# Altium integrated library Integrated_Library.IntLib: 216 symbols (part 1 of 3)
Pins are listed as number, name and electrical type; pins without a type are passive.

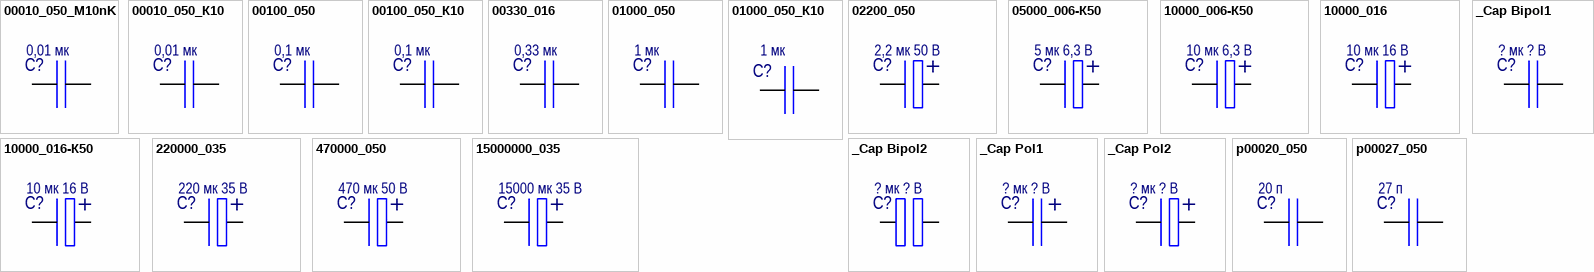
[diagram p0: symbols 00010_050_M10nK to p00027_050]

## 00010_050_M10nK
designator C?, comment value 0,01 мк  (hidden comment: CN8-M10nK)
0,01uF Bipolar cap pin-terminals; ManufacturerPartNumber: CN8-M10nK; Supplier: МЭК; Cost: 18; Package: not standard; ComponentLink1Description: Datasheet; ComponentLink2Description: Datasheet-local; ComponentLink2URL: *
footprint CN8-M10nK (CN8-M10nK Yellow Block Caps For Filter)
pins: 1, 2

## 00010_050_К10
designator C?, comment value 0,01 мк  (hidden comment: К10-17б-0,01 М47 5%)
0,01uF Bipolar cap chip; ManufacturerPartNumber: К10-17б-0,01 М47 5%; Supplier: МЭК; Cost: 18; Package: not standard; ComponentLink1Description: Datasheet; ComponentLink2Description: Datasheet-local; ComponentLink2URL: *
footprint CAPC3216X05M (Chip Capacitor, 2-Leads, Body 3,20x1,60mm, IPC Low Density)
pins: 1, 2

## 00100_050
designator C?, comment value 0,1 мк  (hidden comment: C2012X7R1H104K)
0,1uF Bipolar cap chip; Manufacturer: TDK; ManufacturerPartNumber: C2012X7R1H104K; Supplier: Промэлектроника; Cost: 0,65; Package: 0805; ComponentLink1Description: Datasheet; ComponentLink1URL: http://product.tdk.com/capacitor/mlcc/en/documents/mlcc_commercial_general_en.pdf; ComponentLink2Description: Dtasheet-local; ComponentLink2URL: *
footprint CAPC3216X05M (Chip Capacitor, 2-Leads, Body 3,20x1,60mm, IPC Low Density)
pins: 1, 2

## 00100_050_К10
designator C?, comment value 0,1 мк  (hidden comment: К10-17б-1.00 М47 5%)
0,1uF Bipolar through-hole capacitor; Manufacturer: СССР; ManufacturerPartNumber: К10-17б-1.00 М47 5%; Supplier: Промэлектроника; Cost: 0,65; Package: 0805; ComponentLink1Description: Datasheet; ComponentLink2Description: Dtasheet-local
footprint К-10
pins: 1, 2

## 00330_016
designator C?, comment value 0,33 мк  (hidden comment: CC0603KRX7R7BB334)
0,33uF Bipolar cap chip; Manufacturer: Yageo; ManufacturerPartNumber: CC0603KRX7R7BB334; Supplier: Промэлектроника; Cost: 0,62; Package: 0603; ComponentLink1Description: Datasheet; ComponentLink1URL: http://www.yageo.com/documents/recent/UPY-GPHC_X5R_4V-to-50V_v16.pdf; ComponentLink2Description: Datasheet-local; ComponentLink2URL: *
footprint CAPC3216X05M (Chip Capacitor, 2-Leads, Body 3,20x1,60mm, IPC Low Density)
pins: 1, 2

## 01000_050
designator C?, comment value 1 мк  (hidden comment: GRM31MR71H105K)
1uF Bipolar cap chip; Manufacturer: MURATA; ManufacturerPartNumber: GRM31MR71H105K; Supplier: Промэлектроника; Cost: 1,84; Package: 1206; ComponentLink1Description: Datasheet; ComponentLink1URL: http://product.tdk.com/capacitor/mlcc/en/documents/mlcc_commercial_general_en.pdf; ComponentLink2Description: Dtasheet-local; ComponentLink2URL: *
footprint CAPC3216X05M (Chip Capacitor, 2-Leads, Body 3,20x1,60mm, IPC Low Density)
pins: 1, 2

## 01000_050_К10
designator C?, comment value 1 мк  (hidden comment: К10-17б-1.00 М47 5%)
1uF Bipolar non-standard capacitor; ManufacturerPartNumber: К10-17б-1.00 М47 5%; Supplier: МЭК; Cost: 18; Package: not standard; ComponentLink1Description: Datasheet; ComponentLink2Description: Dtasheet-local; ComponentLink2URL: *
footprint 10000_050_K10
pins: 1, 2

## 02200_050
designator C?, comment value 2,2 мк 50 В  (hidden comment: CA050M2R20REB-0405)
2,2uF 50V Polar capacitor; Manufacturer: Yageo; ManufacturerPartNumber: CA050M2R20REB-0405; Supplier: Промэлектроника; Cost: 4,11; Package: not standard; ComponentLink1Description: Datasheet; ComponentLink1URL: http://www.yageo.com/documents/recent/E-Cap_SurfaceMount_CA_2011.pdf; ComponentLink2Description: Datasheet-local; ComponentLink2URL: *
footprint CAP_POLAR_ELLYTE_B (Surface Mount Aluminum Electrolytic (size code B))
pins: 1 -, 2 +

## 05000_006-К50
designator C?, comment value 5 мк 6,3 В  (hidden comment: К-50-6)
5uF 6,3V Polar through-hole cap; ManufacturerPartNumber: К-50-6; Supplier: -; Cost: -; Package: штырьевой; ComponentLink1Description: Datasheet; ComponentLink2Description: Datasheet-local
footprint К50-6
pins: 1 -, 2 +

## 10000_006-К50
designator C?, comment value 10 мк 6,3 В  (hidden comment: К-50-6)
10uF 6,3V Polar through-hole cap; ManufacturerPartNumber: К-50-6; Supplier: -; Cost: -; Package: штырьевой; ComponentLink1Description: Datasheet; ComponentLink2Description: Datasheet-local
footprint К50-6
pins: 1 -, 2 +

## 10000_016
designator C?, comment value 10 мк 16 В  (hidden comment: CA016M0010REB-0405)
10uF 16V Polar SMD cap; Manufacturer: YAGEO; ManufacturerPartNumber: CA016M0010REB-0405; Supplier: -; Cost: 3,03; Package: штырьевой; ComponentLink1Description: Datasheet; ComponentLink2Description: Datasheet-local
footprint CAP_POLAR_ELLYTE_B (Surface Mount Aluminum Electrolytic (size code B))
pins: 1 -, 2 +

## 10000_016-К50
designator C?, comment value 10 мк 16 В  (hidden comment: К-50-6)
10uF 16V Polar through-hole cap; ManufacturerPartNumber: К-50-6; Supplier: -; Cost: -; Package: штырьевой; ComponentLink1Description: Datasheet; ComponentLink2Description: Datasheet-local
footprint К50-6
pins: 1 -, 2 +

## 220000_035
designator C?, comment value 220 мк 35 В  (hidden comment: CA035M0220REG)
220uF 35V Polar capacitor; Manufacturer: Yageo; ManufacturerPartNumber: CA035M0220REG; Supplier: Промэлектроника; Cost: 20,14; Package: not standard; ComponentLink1Description: Datasheet; ComponentLink1URL: http://www.promelec.ru/pdf/CA_2011.pdf; ComponentLink2Description: Datasheet-local; ComponentLink2URL: *
footprint CAP_POLAR_ELLYTE_G (Surface Mount Aluminum Electrolytic (size code G))
pins: 1 -, 2 +

## 470000_050
designator C?, comment value 470 мк 50 В  (hidden comment: CA035M0220REG)
470uF 50V Polar capacitor; Manufacturer: Yageo; ManufacturerPartNumber: CA035M0220REG; Supplier: Промэлектроника; Cost: 20,14; Package: not standard; ComponentLink1Description: Datasheet; ComponentLink1URL: http://www.promelec.ru/pdf/CA_2011.pdf; ComponentLink2Description: Datasheet-local; ComponentLink2URL: *
footprint CAP_POLAR_10mm (Polar through-hole capactitor 10mm diamiter)
pins: 1 -, 2 +

## 15000000_035
designator C?, comment value 15000 мк 35 В  (hidden comment: LG035M15K0BPF-3045)
15000uF 6,3V Polar through-hole cap; ManufacturerPartNumber: LG035M15K0BPF-3045; Supplier: Промэлектроника; Cost: -; Package: штырьевой; ComponentLink1Description: Datasheet-general; ComponentLink1URL: http://www.yageo.com/documents/recent/E-Cap_LargeCan_LG_2011_v2.pdf; ComponentLink2Description: Datasheet-2
footprint CAP_POLAR_3045 (Корпус электролитического конденсатора Yageo серии LG типа 30х45)
pins: 1 -, 2 +

## _Cap Bipol1
designator C?, comment value ? мк ? В  (hidden comment: ?)
Bipolar capacitor; ManufacturerPartNumber: ?; ComponentLink1Description: Datasheet; ComponentLink2Description: Datasheet-local; ComponentLink2URL: *
pins: 0, 1

## _Cap Bipol2
designator C?, comment value ? мк ? В  (hidden comment: ?)
Bipolar capacitor (electrolytic); ManufacturerPartNumber: ?; ComponentLink1Description: Datasheet; ComponentLink2Description: Datasheet-local; ComponentLink2URL: *
pins: 0, 1

## _Cap Pol1
designator C?, comment value ? мк ? В  (hidden comment: ?)
Polar capacitor; ManufacturerPartNumber: ?; ComponentLink1Description: Datasheet; ComponentLink2Description: Datasheet-local; ComponentLink2URL: *
pins: 0, 1

## _Cap Pol2
designator C?, comment value ? мк ? В  (hidden comment: ?)
Polar capacitor; ManufacturerPartNumber: ?; ComponentLink1Description: Datasheet; ComponentLink2Description: Datasheet-local; ComponentLink2URL: *
pins: 0, 1

## p00020_050
designator C?, comment value 20 п  (hidden comment: CC0603JRNP09BN200)
20pF Bipolar cap; Manufacturer: Yageo; ManufacturerPartNumber: CC0603JRNP09BN200; Supplier: Промэлектроника; Cost: 0,34; Package: 0603; ComponentLink1Description: Datasheet; ComponentLink1URL: http://www.yageo.com/documents/recent/UPY-GPHC_X5R_4V-to-50V_v16.pdf; ComponentLink2Description: Datasheet-local; ComponentLink2URL: *
footprint CAPC3216X05M (Chip Capacitor, 2-Leads, Body 3,20x1,60mm, IPC Low Density)
pins: 1, 2

## p00027_050
designator C?, comment value 27 п  (hidden comment: CC1206JRNP09BN270)
27pF Bipolar cap; Manufacturer: Yageo; ManufacturerPartNumber: CC1206JRNP09BN270; Supplier: Промэлектроника; Cost: 1,40; Package: 1206; ComponentLink1Description: Datasheet; ComponentLink1URL: http://www.yageo.com/documents/recent/UPY-GPHC_X5R_4V-to-50V_v16.pdf; ComponentLink2Description: Datasheet-local; ComponentLink2URL: *
footprint CAPC3216X05M (Chip Capacitor, 2-Leads, Body 3,20x1,60mm, IPC Low Density)
pins: 1, 2


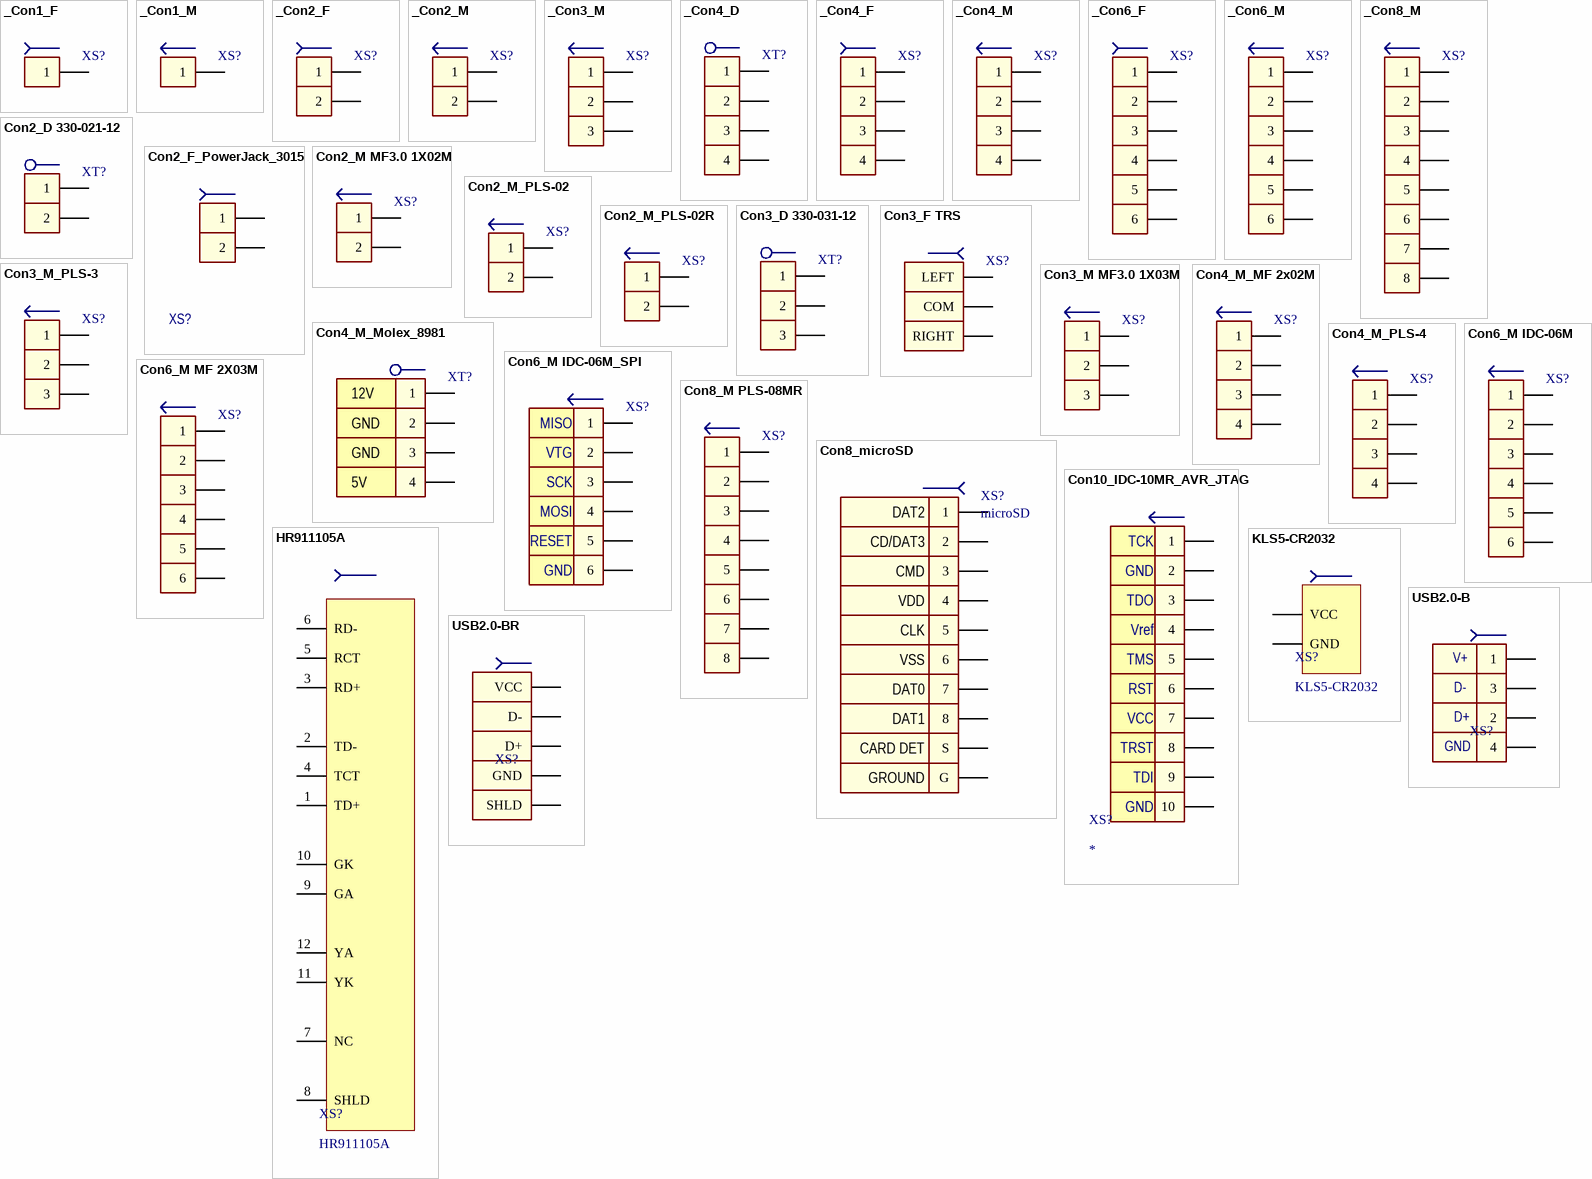
[diagram p1: symbols _Con1_F to USB2.0-BR]

## _Con1_F
designator XS?, comment ?  (value not drawn)
Female 1-pin connection; ManufacturerPartNumber: ?; ComponentLink1Description: Datasheet); ComponentLink2Description: Datasheet-local; ComponentLink2URL: *
pins: 1

## _Con1_M
designator XS?, comment ?  (value not drawn)
Male 1-pin connection; ManufacturerPartNumber: ?; ComponentLink1Description: Datasheet; ComponentLink2Description: Datasheet-local; ComponentLink2URL: *
pins: 1

## _Con2_F
designator XS?, comment ?  (value not drawn)
Female 2-pin connection; ManufacturerPartNumber: ?; ComponentLink1Description: Datasheet; ComponentLink2Description: Datasheet-local; ComponentLink2URL: *
pins: 1, 2

## _Con2_M
designator XS?, comment ?  (value not drawn)
Male 2-pin connection; ManufacturerPartNumber: ?; ComponentLink1Description: Datasheet; ComponentLink2Description: Datasheet-local; ComponentLink2URL: *
pins: 1, 2

## _Con3_M
designator XS?, comment ?  (value not drawn)
Male 3-pin connection; ManufacturerPartNumber: ?; ComponentLink1Description: Datasheet; ComponentLink2Description: Datasheet-local; ComponentLink2URL: *
pins: 1, 2, 3

## _Con4_D
designator XT?, comment ?  (value not drawn)
Demountable connection  4-pin; ManufacturerPartNumber: ?; ComponentLink1Description: Datasheet; ComponentLink2Description: Datasheet-local; ComponentLink2URL: *
pins: 1, 2, 3, 4

## _Con4_F
designator XS?, comment ?  (value not drawn)
Female 4-pin connection; ManufacturerPartNumber: ?; ComponentLink1Description: Datasheet; ComponentLink2Description: Datasheet-local; ComponentLink2URL: *
pins: 1, 2, 3, 4

## _Con4_M
designator XS?, comment ?  (value not drawn)
Male 4-pin connection; ManufacturerPartNumber: ?; ComponentLink1Description: Datasheet; ComponentLink2Description: Datasheet-local; ComponentLink2URL: *
pins: 1, 2, 3, 4

## _Con6_F
designator XS?, comment ?  (value not drawn)
Female 6-pin connection; ManufacturerPartNumber: ?; ComponentLink1Description: Datasheet; ComponentLink2Description: Datasheet-local; ComponentLink2URL: *
pins: 1, 2, 3, 4, 5, 6

## _Con6_M
designator XS?, comment ?  (value not drawn)
Male 6-pin connection; ManufacturerPartNumber: ?; ComponentLink1Description: Datasheet; ComponentLink2Description: Datasheet-local; ComponentLink2URL: *
pins: 1, 2, 3, 4, 5, 6

## _Con8_M
designator XS?, comment ?  (value not drawn)
Male 8-pin connection; ManufacturerPartNumber: ?; ComponentLink1Description: Datasheet; ComponentLink2Description: Datasheet-local; ComponentLink2URL: *
pins: 1, 2, 3, 4, 5, 6, 7, 8

## Con2_D 330-021-12
designator XT?, comment 330-021-12  (value not drawn)
Demountable connection  2-pin; Manufacturer: Degson Electronics Co., Ltd; ManufacturerPartNumber: 330-021-12; ComponentLink1Description: Datasheet; ComponentLink1URL: http://www.promelec.ru/pdf/320,321,330,335.pdf; Cost: 7,45; Supplier: Промэлектроника; ComponentLink2Description: Datasheet-local
footprint 330-021-12
pins: 1, 2

## Con2_F_PowerJack_3015
designator XS?, comment гнездо 5.5*2.1 (3015) 2826  (value not drawn)
гнездо 5.5*2.1; ManufacturerPartNumber: гнездо 5.5*2.1 (3015) 2826; Cost: 16.77; Supplier: Промэлектроника
footprint CON2_3015_PowerJack_5.5x2.1 (Power_Con)
pins: 1, 2

## Con2_M MF3.0 1X02M
designator XS?, comment MF3.0 1X02M  (value not drawn)
Male 2-pin connection; Manufacturer: AUK; ManufacturerPartNumber: MF3.0 1X02M; ComponentLink1Description: Datasheet; ComponentLink1URL: http://www.promelec.ru/catalog/406/1218/1228/0/99573/; ComponentLink2Description: Datasheet-local; ComponentLink2URL: *
footprint MF3.0 1x02M
pins: 1, 2

## Con2_M_PLS-02
designator XS?, comment PLS-02  (value not drawn)
Male 2-pin connection; ManufacturerPartNumber: PLS-02; ComponentLink1Description: Datasheet; ComponentLink1URL: http://www.promelec.ru/catalog/406/1218/1224/1/24233/; ComponentLink2Description: Datasheet-local; ComponentLink2URL: *
footprint PLS-02 (вилка на плату)
pins: 1, 2

## Con2_M_PLS-02R
designator XS?, comment PLS-02R  (value not drawn)
Male 2-pin connection; ManufacturerPartNumber: PLS-02R; ComponentLink1Description: Datasheet; ComponentLink1URL: http://www.promelec.ru/catalog/406/1218/1224/1/24233/; ComponentLink2Description: Datasheet-local; ComponentLink2URL: *
footprint PLS-02R1 (вилка на плату)
footprint PLS-02R2 (вилка на плату)
pins: 1, 2

## Con3_D 330-031-12
designator XT?, comment 330-031-12  (value not drawn)
Demountable connection 3-pin; Manufacturer: Degson Electronics Co., Ltd; ManufacturerPartNumber: 330-031-12; ComponentLink1Description: Datasheet; Cost: 13; Supplier: Промэлектроника; ComponentLink2Description: Datasheet-local
footprint 330-031-12
pins: 1, 2, 3

## Con3_F TRS
designator XS?, comment СТЕР гн.d=3.5 приб PJ317 зеленый  (value not drawn)
Female 3-pin stereo TRS; Manufacturer: SHE; ManufacturerPartNumber: СТЕР гн.d=3.5 приб PJ317 зеленый; ComponentLink1Description: Datasheet; ComponentLink1URL: http://www.promelec.ru/catalog/406/1218/1228/0/99573/; ComponentLink2Description: Datasheet-local; ComponentLink2URL: *
footprint 3.5mm Jack board
pins: 1 LEFT, 2 COM, 3 RIGHT

## Con3_M MF3.0 1X03M
designator XS?, comment MF3.0 1X03M  (value not drawn)
Male 3-pin connection; ManufacturerPartNumber: MF3.0 1X03M; ComponentLink1Description: Datasheet; ComponentLink1URL: http://www.promelec.ru/catalog/406/1218/1228/0/99573/; ComponentLink2Description: Datasheet-local; ComponentLink2URL: *
footprint MF3.0 1x03M
pins: 1, 2, 3

## Con3_M_PLS-3
designator XS?, comment PLS-3  (value not drawn)
Male 3-pin connection; ManufacturerPartNumber: PLS-3; ComponentLink1Description: Datasheet; ComponentLink1URL: http://www.promelec.ru/catalog/406/1218/1224/1/24233/; ComponentLink2Description: Datasheet-local; ComponentLink2URL: *
footprint PLS-03
pins: 1, 2, 3

## Con4_M_MF 2x02M
designator XS?, comment MF 2x02M  (value not drawn)
Male 4-pin connection; Manufacturer: AUK Connector; ManufacturerPartNumber: MF 2x02M; ComponentLink1Description: Datasheet; ComponentLink1URL: http://www.promelec.ru/catalog/406/1218/1228/0/63868/; Cost: 13,94; Supplier: Промэлектроника; ComponentLink2Description: Datasheet-local; ComponentLink2URL: *
footprint MF 2x02M
pins: 1, 2, 3, 4

## Con4_M_Molex_8981
designator XT?, comment molex 8981  (value not drawn)
Demountable connection  4-pin; Manufacturer: Molex Inc.; ManufacturerPartNumber: molex 8981; ComponentLink1Description: Datasheet; ComponentLink1URL: http://www.molex.com/pdm_docs/sd/015244048_sd.pdf; Cost: 16,90; Supplier: Промэлектроника; ComponentLink2Description: Datasheet-local
footprint con4_molex_8981 (4-pin molex connection)
pins: 1, 2, 3, 4
text: 12V; GND; 5V

## Con4_M_PLS-4
designator XS?, comment PLS-4  (value not drawn)
Male 4-pin connection; ManufacturerPartNumber: PLS-4; ComponentLink1Description: Datasheet; ComponentLink1URL: http://www.promelec.ru/catalog/406/1218/1224/1/24233/; ComponentLink2Description: Datasheet-local; ComponentLink2URL: *
footprint PLS-04 (вилка на плату)
pins: 1, 2, 3, 4

## Con6_M IDC-06M
designator XS?, comment IDC-06M  (value not drawn)
Male 6-pin connection; ManufacturerPartNumber: IDC-06M; ComponentLink1Description: Datasheet; ComponentLink1URL: http://www.promelec.ru/catalog/406/1218/1223/1/156430/; ComponentLink2Description: Datasheet-local; ComponentLink2URL: *
footprint IDC-06M
pins: 1, 2, 3, 4, 5, 6

## Con6_M IDC-06M_SPI
designator XS?, comment IDC-06M  (value not drawn)
SPI connector; ManufacturerPartNumber: IDC-06M; ComponentLink1Description: Datasheet; ComponentLink1URL: http://www.promelec.ru/catalog/406/1218/1223/1/156430/; ComponentLink2Description: Datasheet-local; ComponentLink2URL: *
footprint IDC-06M
pins: 1, 2, 3, 4, 5, 6
text: MISO; VTG; SCK; MOSI; RESET; GND

## Con6_M MF 2X03M
designator XS?, comment MF 2X03M  (value not drawn)
Male 6-pin connection; ManufacturerPartNumber: MF 2X03M; ComponentLink1Description: Datasheet; ComponentLink1URL: http://www.promelec.ru/catalog/406/1218/1228/0/63867/; ComponentLink2Description: Datasheet-local; ComponentLink2URL: *
footprint MF 2x03M
pins: 1, 2, 3, 4, 5, 6

## Con8_M PLS-08MR
designator XS?, comment PLS-08R  (value not drawn)
Male 8-pin connection; ManufacturerPartNumber: PLS-08R; ComponentLink1Description: Datasheet; ComponentLink1URL: http://www.promelec.ru/catalog/406/1218/1223/1/99528/; ComponentLink2Description: Datasheet-local; ComponentLink2URL: *
footprint PLS-08R1 (угловая вилка на плату)
footprint PLS-08R2 (угловая вилка на плату)
pins: 1, 2, 3, 4, 5, 6, 7, 8

## Con8_microSD
designator XS?, comment microSD
MicroSD surface mount socket (push-push type); ManufacturerPartNumber: TFC-WPCER-08; Manufacturer: AUK; ComponentURL1Description: Datasheet; Cost: 64; ComponentURL1Link: http://www.promelec.ru/pdf/TFC-WPCE08.pdf; Supplier: Промэлектроника
footprint TFC-WPCER-08 (MicroSD Socket Top Mount Push-push Type)
pins: 1, 2, 3, 4, 5, 6, 7, 8, G, S
text: DAT2; CD/DAT3; CMD; VDD; CLK; VSS; DAT0; DAT1; CARD DET; GROUND

## Con10_IDC-10MR_AVR_JTAG
designator XS?
AVR JTAG connector
footprint IDC-10MR (IDC 10 pin right connector)
pins: 1, 2, 3, 4, 5, 6, 7, 8, 9, 10
text: TCK; GND; TDO; Vref; TMS; RST; VCC; TRST; TDI

## HR911105A
designator XS?
Ethernet Magjack; ManufacturerPartNumber: HR911105A
footprint HR911105A (Magjack)
pins: 1 TD+, 2 TD-, 3 RD+, 4 TCT, 5 RCT, 6 RD-, 7 NC, 8 SHLD, 9 GA, 10 GK, 11 YK, 12 YA

## KLS5-CR2032
designator XS?
CR2032 battery holder
footprint KLS5-CR2032 (CR2032 battery holder)
pins: + VCC, - GND

## USB2.0-B
designator XS?, comment USB B A-09 РОЗЕТКА НА ПЛАТУ  (value not drawn)
USB-B; ManufacturerPartNumber: USB B A-09 РОЗЕТКА НА ПЛАТУ; ComponentLink1Description: Datasheet; ComponentLink1URL: http://www.promelec.ru/catalog/406/1229/1281/1/124861/; ComponentLink2Description: Datasheet-local; ComponentLink2URL: *
footprint USB2.0B_Horizontal (Connector; USB1.1, Type B, Thru-Hole; 4 Position; Right Angle)
pins: 1, 2, 3, 4
text: V+; D-; D+; GND

## USB2.0-BR
designator XS?, comment USB B A-09 РОЗЕТКА НА ПЛАТУ  (value not drawn)
USB-B Vertical; ManufacturerPartNumber: USB B A-09 РОЗЕТКА НА ПЛАТУ; ComponentLink1Description: Datasheet; ComponentLink1URL: http://www.promelec.ru/catalog/406/1229/1281/1/124861/; ComponentLink2Description: Datasheet-local; ComponentLink2URL: *
footprint USB2.0B_Vertical (Connector; USB1.1, Type B, Thru-Hole; 4 Position; Right Angle)
pins: D+, D-, GND, SHLD, VCC


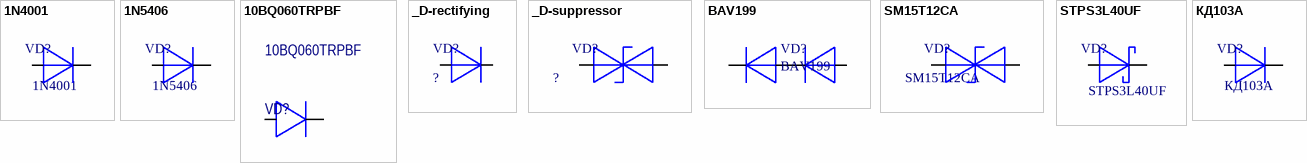
[diagram p2: symbols 1N4001 to КД103А]

## 1N4001
designator VD?
Rectifying diode; ComponentLink1Description: Datasheet; ComponentLink1URL: http://www.promelec.ru/pdf/1N400x.pdf; Cost: 5; Package: штырьевой; ComponentLink2Description: Datasheet-local; ComponentLink2URL: *; ManufacturerPartNumber: 1N4001
footprint PinDiode (Simple pin diode with A and K designators)
pins: A, K

## 1N5406
designator VD?
Выпрямительный диод 600В 3А; ComponentLink1Description: Datasheet; ComponentLink1URL: http://www.vishay.com/docs/88516/1n5400.pdf; Cost: 5; Package: DO-201AD; Supplier: Промэлектроника; ComponentLink2Description: Datasheet-local; ManufacturerPartNumber: 1N5406
footprint DO-201AD
pins: A, K

## 10BQ060TRPBF
designator VD?
DIODE SCHOTTKY 60V 1A DO214AA; Manufacturer: Vishay Semiconductor Diodes Division; Voltage - Forward (Vf) (Max) @ If: 600mV @ 1A; Current - Reverse Leakage @ Vr: 100µA @ 60V; Category: Discrete Semiconductor Products; Diode Type: Schottky; Voltage - DC Reverse (Vr) (Max): 60V; Current - Average Rectified (Io): 1A; Reverse Recovery Time (trr): -; Mounting Type: Surface Mount; Package / Case: DO-214AA, SMB; Operating Temperature - Junction: -55°C ~ 150°C; ComponentLink1URL: http://www.vishay.com/docs/94113/vs-10bq060pbf.pdf; ComponentLink1Description: http://www.vishay.com/docs/94113/vs-10bq060pbf.pdf; ManufacturerPartNumber: 10BQ060TRPBF
footprint SHOTKY 4.1x3.3
pins: A, K

## _D-rectifying
designator VD?, comment ?
Dectifying diode; ComponentLink1Description: Datasheet; ComponentLink2Description: Datasheet-local; ComponentLink2URL: *; ManufacturerPartNumber: ?
pins: 1, 2

## _D-suppressor
designator VD?, comment ?
Diod suppressor; ComponentLink1Description: Datasheet; ComponentLink2Description: Datasheet-local; ComponentLink2URL: *; ManufacturerPartNumber: ?
pins: 1, 2

## BAV199
designator VD?
Epitaxial, medium-speed switching,  double diode in a small SOT23 plastic  SMD package. The diodes are  connected in series.; Manufacturer: NXP; ManufacturerPartNumber: BAV199; Cost: 0.73; ComponentLink1Description: Datasheet; Package: SOT23; Supplier: Промэлектроника; ComponentLink1URL: http://www.nxp.com/documents/data_sheet/BAV199.pdf
footprint SOT23 (TO-236AB) (SOT23, 3-Leads, Body 2,90x2,45mm, Pitch 0,95mm, IPC Low Density)
pins: 1, 2, 3

## SM15T12CA
designator VD?
Diod suppressor; Manufacturer: ST Microelectronics; Notes: 12 В; ComponentLink1Description: Datasheet; ComponentLink1URL: http://www.st.com/st-web-ui/static/active/en/resource/technical/document/datasheet/CD00000724.pdf; Cost: 16,73; Package: SMC/DO-214AB; Supplier: Промэлектроника; ComponentLink2Description: Datasheet-local; ComponentLink2URL: *; ManufacturerPartNumber: SM15T12CA
footprint SUPRES3216X18N
pins: 1, 2

## STPS3L40UF
designator VD?
Диод Шоттки 40В 3А; ComponentLink1Description: Datasheet; ComponentLink1URL: http://www.st.com/web/en/resource/technical/document/datasheet/CD00002082.pdf; Cost: 5; Package: SMC; ComponentLink2Description: Datasheet-local; ComponentLink2URL: *; ManufacturerPartNumber: STPS3L40UF
footprint SMC (Molded Diode, 2-Leads, Body 6,88x5,90mm, IPC Low Density)
pins: A, K

## КД103А
designator VD?
Rectifying diode; ComponentLink1Description: Datasheet; Package: штырьевой; ComponentLink2Description: Datasheet-local; ComponentLink2URL: *; ManufacturerPartNumber: КД103А
footprint КД103
pins: A, K


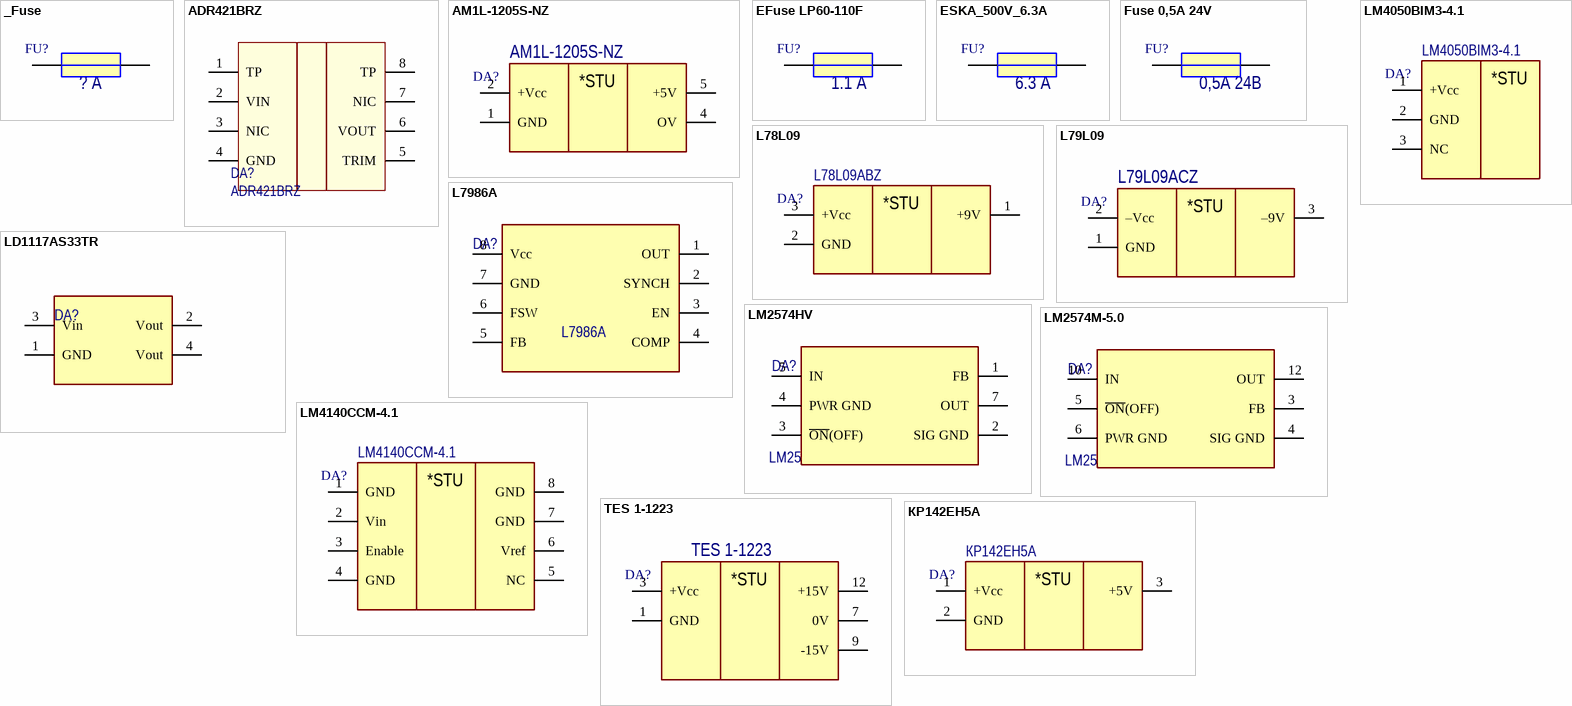
[diagram p3: symbols _Fuse to КР142ЕН5А]

## _Fuse
designator FU?, comment value ? А  (hidden comment: ?)
Fuse; ManufacturerPartNumber: ?; ComponentLink1Description: Datasheet; ComponentLink2Description: Datasheet-local; ComponentLink2URL: *
pins: 1, 2

## ADR421BRZ
designator DA?
IC VREF SERIES 2.5V 8SOIC; Manufacturer: Analog Devices Inc.; Manufacturer Part Number: ADR421ARZ; Output Type: Fixed; Current - Output: 10mA; Tolerance: ±0.12%; Temperature Coefficient: 10ppm/°C; Noise - 0.1Hz to 10Hz: 1.75µVp-p; Voltage - Input: 4.5 V ~ 18 V; Current - Supply: 600µA; RoHS: RoHS Compliant; Category: Integrated Circuits (ICs); Packaging: Tube; Reference Type: Series; Voltage - Output (Min/Fixed): 2.5V; Voltage - Output (Max): -; Noise - 10Hz to 10kHz: -; Current - Cathode: -; Operating Temperature: -40°C ~ 125°C (TA); Mounting Type: Surface Mount; Package / Case: 8-SOIC (0.154", 3.90mm Width); Supplier Device Package: 8-SOIC; ComponentLink1URL: http://www.analog.com/media/en/technical-documentation/data-sheets/ADR420_421_423_425.pdf; ComponentLink1Description: http://www.analog.com/media/en/technical-documentation/data-sheets/ADR420_421_423_425.pdf; Supplier 1: Digi-Key; Stock 1: 2020; Pricing 1: 1=10.36, 98=8.91959, 196=7.7448, 588=6.74405, 1078=5.87385, 2548=5.6563, 5000=5.496 (USD); ManufacturerPartNumber: ADR421BRZ; Supplier Part Number 1: ADR421BRZ-ND
footprint SO8 (SOIC, 8-Leads, Body 4,90x3,90mm, Pitch 1,27mm, IPC Low Density)
pins: 1 TP, 2 VIN, 3 NIC, 4 GND, 5 TRIM, 6 VOUT, 7 NIC, 8 TP

## AM1L-1205S-NZ
designator DA?
DC/DC Isolation; Manufacturer: AIMTEC; ComponentLink1URL: http://www.aimtec.com/site/Aimtec/files/Datasheet/HighResolution/AM1L-N-Z.pdf; ComponentLink2Description: Datasheet-local; Package: SMD-8; Cost: 166,68; Supplier: Диджитек; ComponentLink1Description: Datasheet; ComponentLink2URL: .\datasheet\AM1L-N-Z.pdf; ManufacturerPartNumber: AM1L-1205S-NZ
footprint SOP254P1120X625-8M (SOP, 8-Leads, Body 12,70x7,25mm, Pitch 2,54mm, IPC Low Density)
footprint SOP254P1120X625-8M (SOP, 8-Leads, Body 12,70x7,25mm, Pitch 2,54mm, IPC Low Density)
pins: 1 GND (power), 2 +Vcc (power), 4 OV (power), 5 +5V (power)
text: *STU

## EFuse LP60-110F
designator FU?  value 1.1 А  (hidden comment: EFuse LP60-110F)
Fuse; ManufacturerPartNumber: EFuse LP60-110F; ComponentLink1Description: Datasheet; ComponentLink2Description: Datasheet-local; ComponentLink2URL: *
footprint EFuse 1.1A
pins: 1, 2

## ESKA_500V_6.3A
designator FU?, comment value 6.3 А  (hidden comment: ESKA 120.700 (1207))
Fuse; ManufacturerPartNumber: ESKA 120.700 (1207); ComponentLink1Description: Datasheet; ComponentLink1URL: http://conrad.ru/doci/dergatel_predohranitelya_eska__533920_multi.pdf; ComponentLink2Description: Datasheet-local; ComponentLink2URL: *
footprint ESKA_1207 (Держатель для предохранителя 5mm x 20mm)
pins: 1, 2

## Fuse 0,5A 24V
designator FU?, comment value 0,5А 24В  (hidden comment: miniSMDC050F-2)
Fuse 0,5А 36В; Manufacturer: RAYCHEM; ManufacturerPartNumber: miniSMDC050F-2; ComponentLink1Description: Datasheet; Cost: 16,90; Supplier: Промэлектроника; ComponentLink2Description: Datasheet-local; ComponentLink2URL: *
footprint EFUSEC4632X06M (Chip eFuse, 2-Leads, Body 4,55x3,24mm, IPC Low Density)
pins: 1, 2

## L78L09
designator DA?, comment L78L09ABZ
DC/DC Positive; Manufacturer: ST Microelectronics; Package: TO-92; ComponentLink1URL: http://www.st.com/web/en/resource/technical/document/datasheet/CD00000446.pdf; ComponentLink1Description: Datasheet; Cost: 10,88; Supplier: Промэлектроника; ComponentLink2URL: .\datasheet\L78LxxAB.pdf; ComponentLink2Description: Datasheet-local; ManufacturerPartNumber: L78L09ABZ
footprint L78L09 (TO-92)
pins: 1 +9V (power), 2 GND (power), 3 +Vcc (power)
text: *STU

## L79L09
designator DA?, comment L79L09ACZ
DC/DC Negative; Manufacturer: ST Microelectronics; Package: TO-92; ComponentLink1Description: Datasheet; ComponentLink1URL: http://www.st.com/st-web-ui/static/active/en/resource/technical/document/datasheet/CD00000539.pdf; Supplier: Промэлектроника; Cost: 14,77; ComponentLink2Description: Datasheet-local; ComponentLink2URL: .\datasheet\L78LxxAB.pdf; ManufacturerPartNumber: L79L09ACZ
footprint L78L09 (TO-92)
pins: 1 GND (power), 2 –Vcc (power), 3 –9V (power)
text: *STU

## L7986A
designator DA?
3 A step-down switching regulator; Manufacturer: ST; Package: HSOP8; Supplier: Промэлектроника; ComponentLink1Description: Datasheet; ComponentLink1URL: http://www.st.com/web/en/resource/technical/document/datasheet/DM00041568.pdf; ManufacturerPartNumber: L7986A
footprint HSOP8 (SOIC, 8-Leads, Body 4,90x3,90mm, Pitch 1,27mm, IPC Low Density)
pins: 1 OUT "Regulator output", 2 SYNCH "Master/slave synchronization. When it is left floating, a signal with a phase shift of half a period, with respect to the power turn-on is present at the pin. When connected to an external signal at a frequency higher than the internal one, the device is synchronized by the external signal, with zero phase shift. Connecting together the SYNCH pin of two devices, the one with a higher frequency works as master and the other one as slave; so the two powers turn-ons have a phase shift of half a period.", 3 EN "A logical signal (active high) enables the device. With EN higher than 1.2 V the device is ON and with EN lower than 0.3 V the device is OFF", 4 COMP "Error amplifier output to be used for loop frequency compensation", 5 FB "Feedback input. By connecting the output voltage directly to this pin the output voltage is regulated at 0.6 V. To have higher regulated voltages an external resistor divider is required from Vout to the FB pin", 6 FSW "The switching frequency can be increased connecting an external resistor from the FSW pin and ground. If this pin is left floating, the device works at its free-running frequency of 250 KHz.", 7 GND "Ground", 8 Vcc "Unregulated DC input voltage"

## LD1117AS33TR
designator DA?, comment LD1117A
LDO регулятор напряжения 3.3V 1.0A Positive; Manufacturer: STMicroelectronics; ManufacturerPartNumber: LD1117AS33TR; Входной ток смещения - макс.: 5 mA; Входное напряжение (макс.): 10 V; Количество выходов: 1 Output; Выходной ток: 1 A; Тип выхода: Fixed; Упаковка / блок: SOT-223-3; Упаковка: Reel; Напряжение отпускания - макс.: 1.1 V at 100 mA; Вид монтажа: SMD/SMT; Точность регулирования напряжения: 2 %; Нестабильность выходного напряжения или тока: 6 mV / V; Нестабильность выходной нагрузки: 10 mV; Максимальная рабочая температура: + 125 C; Максимальное рассеяние мощности: 12 W; Минимальная рабочая температура: 0 C; Категория продукта: Low Drop Voltage Regulators/Drivers; Кол-во в стандартной упаковке: 2500; Supplier 1: Mouser; RoHS: RoHS Compliant; Category: LDO регуляторы напряжения; Stock 1: 3050; Pricing 1: 1=1.14, 10=0.890, 100=0.576, 1000=0.461, 2500=0.388, 10000=0.377 (USD); Выходное напряжение: 3.3 V; Серия: LD1117A; Торговая марка: STMicroelectronics; Производитель: STMicroelectronics; RoHS - Mouser: Y; Minimum Order Quantity: 1; Reeling: True; ComponentLink1URL: http://www.mouser.com/ds/2/389/CD00002116-250310.pdf; ComponentLink1Description: http://www.mouser.com/ds/2/389/CD00002116-250310.pdf; Cost: 45; Supplier Part Number 1: 511-LD1117AS33
footprint SOT230P700X180-4L (SOT223, 4-Leads, Body 6,50x7,00mm (avg), Pitch 2,30mm, IPC High Density)
pins: 1 GND, 2 Vout, 3 Vin, 4 Vout

## LM2574HV
designator DA?
Package: DIP-8; ManufacturerPartNumber: LM2574HV
footprint DIP8
pins: 1 FB, 2 SIG GND, 3 ~{ON}(OFF), 4 PWR GND, 5 IN, 7 OUT

## LM2574M-5.0
designator DA?
ManufacturerPartNumber: LM2574M-5.0
footprint SOIC127P1030X264-14M (SOIC, 14-Leads, Body 8,99x7,49mm, Pitch 1,27mm, IPC Low Density)
pins: 3 FB, 4 SIG GND, 5 ~{ON}(OFF), 6 PWR GND, 10 IN, 12 OUT

## LM4050BIM3-4.1
designator DA?
Precision Micropower Shunt Voltage Reference; Manufacturer: Texas Instruments; Package: SOT23; ComponentLink1URL: http://www.ti.com/lit/ds/symlink/lm4050-n.pdf; ComponentLink1Description: Datasheet; Cost: 99,84; Supplier: Промэлектроника; ComponentLink2URL: .\datasheet\L78LxxAB.pdf; ComponentLink2Description: Datasheet-local; ManufacturerPartNumber: LM4050BIM3-4.1
footprint L78L09 (TO-92)
pins: 1 +Vcc (power), 2 GND (power), 3 NC
text: *STU

## LM4140CCM-4.1
designator DA?
Precision Micropower Shunt Voltage Reference; Manufacturer: Texas Instruments; Package: SO8; ComponentLink1URL: http://www.ti.com/lit/ds/symlink/lm4140.pdf; ComponentLink1Description: Datasheet; Cost: 78,68; Supplier: Промэлектроника; ComponentLink2URL: *; ComponentLink2Description: Datasheet-local; ManufacturerPartNumber: LM4140CCM-4.1
footprint SO8 (SOIC, 8-Leads, Body 4,90x3,90mm, Pitch 1,27mm, IPC Low Density)
pins: 1 GND (power), 2 Vin (power), 3 Enable, 4 GND, 5 NC, 6 Vref, 7 GND, 8 GND
text: *STU

## TES 1-1223
designator DA?
DC/DC Isolation; Manufacturer: Traco Electronic AG; _Output Voltage Nom.: 15V, -15V; _Input Voltage Nom.: 12V; ComponentLink1URL: http://www.tracopower.com/products/tes1.pdf; ComponentLink1Description: Datasheet; Cost: 89,90; Package: not standard; Supplier: Аргуссофт; ComponentLink2Description: Datasheet-local; ComponentLink2URL: .\datasheet\tes1.pdf; ManufacturerPartNumber: TES 1-1223
footprint SOP254P1120X700-10M (SOP, 10-Leads, Body 16,30x8,00mm, Pitch 2,54mm, IPC Low Density)
pins: 1 GND, 3 +Vcc, 7 0V (power), 9 -15V (power), 12 +15V (power)
text: *STU

## КР142ЕН5А
designator DA?
DC/DC Positive; Manufacturer: СССР; Package: TO-220; ComponentLink1Description: Datasheet; Cost: 15,53; Supplier: Промэлектроника; ComponentLink2Description: Datasheet-local; ManufacturerPartNumber: КР142ЕН5А
footprint TO220
pins: 1 +Vcc (power), 2 GND (power), 3 +5V (power)
text: *STU


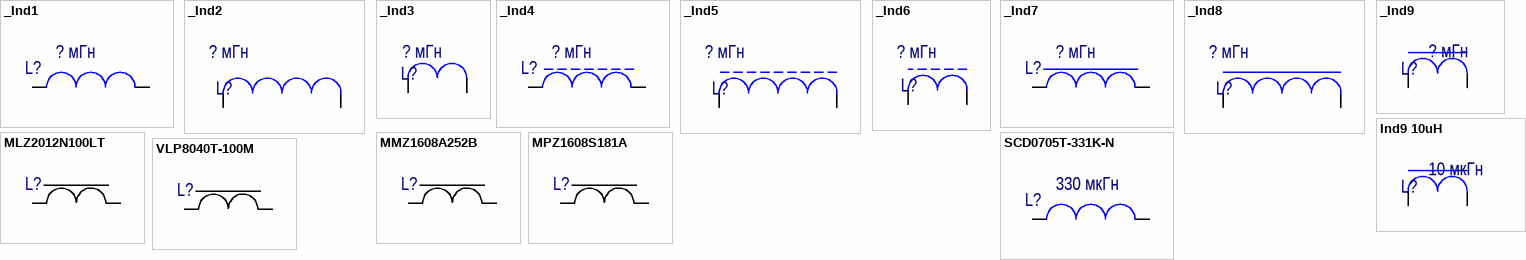
[diagram p4: symbols _Ind1 to VLP8040T-100M]

## _Ind1
designator L?, comment value ? мГн  (hidden comment: ?)
Inductor; ManufacturerPartNumber: ?; ComponentLink1Description: Datasheet; ComponentLink2Description: Datasheet-local; ComponentLink2URL: *
pins: 0, 1

## _Ind2
designator L?, comment value ? мГн  (hidden comment: ?)
Inductor; ManufacturerPartNumber: ?; ComponentLink1Description: Datasheet; ComponentLink2Description: Datasheet-local; ComponentLink2URL: *
pins: 0, 1

## _Ind3
designator L?, comment value ? мГн  (hidden comment: ?)
Inductor; ManufacturerPartNumber: ?; ComponentLink1Description: Datasheet; ComponentLink2Description: Datasheet-local; ComponentLink2URL: *
pins: 0, 1

## _Ind4
designator L?, comment value ? мГн  (hidden comment: ?)
Inductor; ManufacturerPartNumber: ?; ComponentLink1Description: Datasheet; ComponentLink2Description: Datasheet-local; ComponentLink2URL: *
pins: 0, 1

## _Ind5
designator L?, comment value ? мГн  (hidden comment: ?)
Inductor; ManufacturerPartNumber: ?; ComponentLink1Description: Datasheet; ComponentLink2Description: Datasheet-local; ComponentLink2URL: *
pins: 0, 1

## _Ind6
designator L?, comment value ? мГн  (hidden comment: ?)
Inductor; ManufacturerPartNumber: ?; ComponentLink1Description: Datasheet; ComponentLink2Description: Datasheet-local; ComponentLink2URL: *
pins: 0, 1

## _Ind7
designator L?, comment value ? мГн  (hidden comment: ?)
Inductor; ManufacturerPartNumber: ?; ComponentLink1Description: Datasheet; ComponentLink2Description: Datasheet-local; ComponentLink2URL: *
pins: 0, 1

## _Ind8
designator L?, comment value ? мГн  (hidden comment: ?)
Inductor; ManufacturerPartNumber: ?; ComponentLink1Description: Datasheet; ComponentLink2Description: Datasheet-local; ComponentLink2URL: *
pins: 0, 1

## _Ind9
designator L?, comment value ? мГн  (hidden comment: ?)
Inductor; ManufacturerPartNumber: ?; ComponentLink1Description: Datasheet; ComponentLink2Description: Datasheet-local; ComponentLink2URL: *
pins: 0, 1
1 alternate drawing of the same symbol

## Ind9 10uH
designator L?, comment value 10 мкГн  (hidden comment: B82477R4103M100)
Inductor; Manufacturer: EPCOS AG; ManufacturerPartNumber: B82477R4103M100; ComponentLink1Description: Datasheet; Cost: 80,62; Package: SMD 12.5*12.5*8.5; Supplier: Промэлектроника; ComponentLink2Description: Datasheet-local; ComponentLink2URL: *
footprint INDP7972X50M (Precision Wire Wound Inductor, 2-Leads, Body 7,90x7,20mm, IPC Low Density)
pins: 1, 2
1 alternate drawing of the same symbol

## MLZ2012N100LT
designator L?, comment MPZ1608S181A  (value not drawn)
Катушка 500mA 10мкГн; Manufacturer: TDK; ManufacturerPartNumber: MPZ1608S181A; ComponentLink1Description: Datasheet; ComponentLink1URL: http://www.mouser.com/ds/2/400/inductor_commercial_decoupling_mlz_en-348849.pdf; Package: 2012; Supplier: Промэлектроника; ComponentLink2Description: Datasheet-local; ComponentLink2URL: *; Value: 10 мкГн
footprint MLZ2012
pins: 1, 2

## MMZ1608A252B
designator L?  (value not drawn)
Феррит 2500Ом@100МГц; Manufacturer: TDK; ManufacturerPartNumber: MMZ1608A252B; ComponentLink1Description: Datasheet; ComponentLink1URL: http://product.tdk.com/en/catalog/datasheets/e9412_mmz.pdf; Cost: 10.14; Package: 2012; Supplier: Промэлектроника; ComponentLink2Description: Datasheet-local; Value: 2500Ом@100МГц
footprint MMZ1608
pins: 1, 2

## MPZ1608S181A
designator L?  (value not drawn)
Феррит 180Ом@100МГц. R@dc 0.05ohms 2.0A; Value: ? мГн; ManufacturerPartNumber: MPZ1608S181A; ComponentLink1Description: Datasheet; Supplier: Промэлектроника; ComponentLink2Description: Datasheet-local; ComponentLink2URL: *
footprint MMZ1608
pins: 1, 2

## SCD0705T-331K-N
designator L?  value 330 мкГн  (hidden comment: SCD0705T-331K-N)
Inductor; ManufacturerPartNumber: SCD0705T-331K-N; ComponentLink1Description: Datasheet; ComponentLink1URL: http://download.siliconexpert.com/pdfs/2010/12/8/6/47/4/732/yageo_/manual/inductors_smdpower_scd_2010.pdf; ComponentLink2Description: Datasheet-local; ComponentLink2URL: *
footprint INDP7972X50M (Precision Wire Wound Inductor, 2-Leads, Body 7,90x7,20mm, IPC Low Density)
pins: 1, 2

## VLP8040T-100M
designator L?  (value not drawn)
Катушка 3.2A 10мкГн; Manufacturer: TDK; ManufacturerPartNumber: VLP8040T-100M; ComponentLink1Description: Datasheet; ComponentLink1URL: http://www.mouser.com/ds/2/400/inductor_commercial_decoupling_mlz_en-348849.pdf; Package: 2012; Supplier: Промэлектроника; ComponentLink2Description: Datasheet-local; ComponentLink2URL: *; Value: 10 мкГн
footprint VLP8040 (Wound Ferrite, Inductors for Power Circuits)
pins: 1, 2


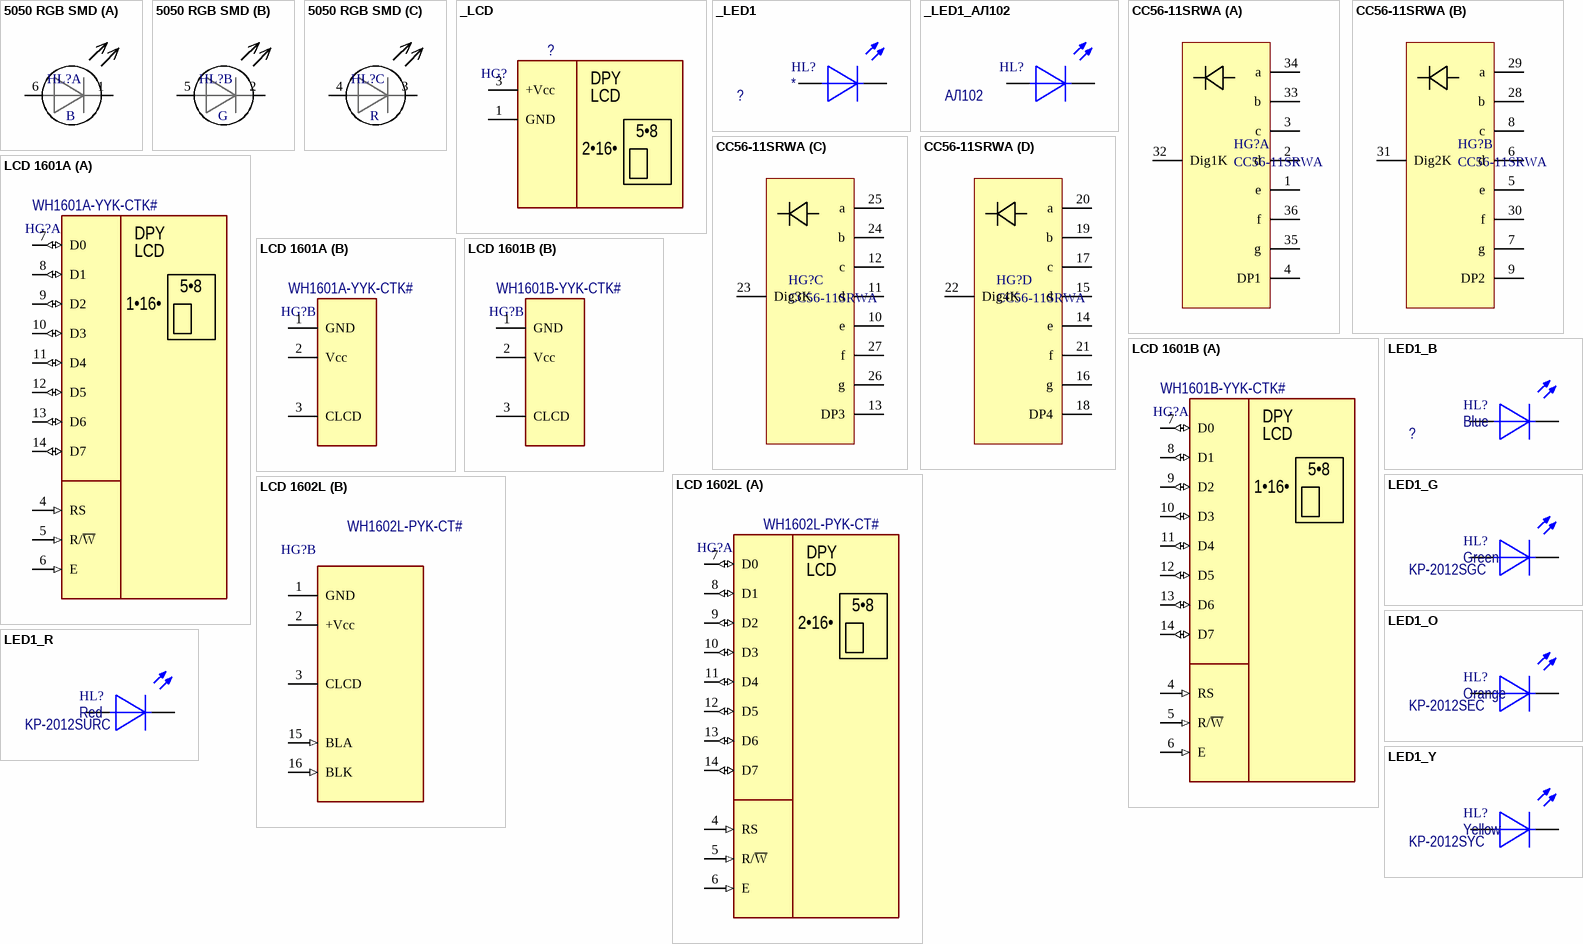
[diagram p5: symbols 5050 RGB SMD to LED1_Y]

## 5050 RGB SMD
designator HL?
footprint 5050 (RGB-led)
part A pins: 1, 6
part B pins: 2, 5
part C pins: 3, 4
3 alternate drawings of the same symbol
part A text: B
part B text: G
part C text: R

## _LCD
designator HG?, comment ?
Liquid crystal display; Manufacturer: ?; ComponentLink2Description: Datasheet-local; ComponentLink2URL: *; ManufacturerPartNumber: ?
pins: 1 GND (power) "Ground", 3 +Vcc (power) "Vcc"
text: DPY; LCD; 5•8; 2•16•

## _LED1
designator HL?
Diod LED; ComponentLink1Description: Datasheet; ComponentLink2Description: Datasheet-local; ComponentLink2URL: *; Color: *; ManufacturerPartNumber: ?
pins: 1, 2
3 alternate drawings of the same symbol

## _LED1_АЛ102
designator HL?  ManufacturerPartNumber: АЛ102
Diod LED; Manufacturer: СССР; ComponentLink1Description: Datasheet; Package: штырьевой; ComponentLink2Description: Datasheet-local
footprint LED_diode
pins: A, K
3 alternate drawings of the same symbol

## CC56-11SRWA
designator HG?
The Super Bright Red source color devices are made with  Gallium Aluminum Arsenide Red Light Emitting Diode.; Manufacturer: Kingbright; ComponentLink1Description: Datasheet; ComponentLink1URL: http://lib.chipdip.ru/195/DOC000195478.pdf; Cost: 151.88; ManufacturerPartNumber: CC56-11SRWA; Notes: *; Package: not standard; Supplier: Промэлектроника
footprint CC56-11SRWA
part A pins: 1 e, 2 d, 3 c, 4 DP1, 32 Dig1K, 33 b, 34 a, 35 g, 36 f
part B pins: 5 e, 6 d, 7 g, 8 c, 9 DP2, 28 b, 29 a, 30 f, 31 Dig2K
part C pins: 10 e, 11 d, 12 c, 13 DP3, 23 Dig3K, 24 b, 25 a, 26 g, 27 f
part D pins: 14 e, 15 d, 16 g, 17 c, 18 DP4, 19 b, 20 a, 21 f, 22 Dig4K

## LCD 1601A
designator HG?, comment WH1601A-YYK-CTK#
Liquid crystal display; Manufacturer: Winstar; ComponentLink1URL: http://www.promelec.ru/pdf/wh1602l.pdf; ComponentLink1Description: Datasheet; ComponentLink2Description: Datasheet-local; ComponentLink2URL: *; ManufacturerPartNumber: WH1601A-YYK-CTK#
footprint WH1601A
part A pins: 4 RS (in), 5 R/~{W} (in) "R/W", 6 E (in), 7 D0 (io) "DB0", 8 D1 (io) "DB1", 9 D2 (io) "DB2", 10 D3 (io) "DB0", 11 D4 (io) "DB0", 12 D5 (io) "DB0", 13 D6 (io) "DB0", 14 D7 (io) "DB0"
part B pins: 1 GND (power) "Vss", 2 Vcc (power) "Vdd", 3 CLCD (power) "V0"
part A text: DPY; LCD; 5•8; 1•16•

## LCD 1601B
designator HG?, comment WH1601B-YYK-CTK#
Liquid crystal display; Manufacturer: Winstar; ComponentLink1URL: http://www.promelec.ru/pdf/wh1602l.pdf; ComponentLink1Description: Datasheet; ComponentLink2Description: Datasheet-local; ComponentLink2URL: *; ManufacturerPartNumber: WH1601B-YYK-CTK#
footprint WH1601B
part A pins: 4 RS (in), 5 R/~{W} (in) "R/W", 6 E (in), 7 D0 (io) "DB0", 8 D1 (io) "DB1", 9 D2 (io) "DB2", 10 D3 (io) "DB0", 11 D4 (io) "DB0", 12 D5 (io) "DB0", 13 D6 (io) "DB0", 14 D7 (io) "DB0"
part B pins: 1 GND (power) "Vss", 2 Vcc (power) "Vdd", 3 CLCD (power) "V0"
part A text: DPY; LCD; 5•8; 1•16•

## LCD 1602L
designator HG?, comment WH1602L-PYK-CT#
Liquid crystal display; Manufacturer: Winstar; ComponentLink1URL: http://www.promelec.ru/pdf/wh1602l.pdf; ComponentLink1Description: Datasheet; ComponentLink2Description: Datasheet-local; ComponentLink2URL: *; ManufacturerPartNumber: WH1602L-PYK-CT#
footprint WH1602
footprint WH1602L
part A pins: 4 RS (in), 5 R/~{W} (in) "R/W", 6 E (in), 7 D0 (io) "DB0", 8 D1 (io) "DB1", 9 D2 (io) "DB2", 10 D3 (io) "DB0", 11 D4 (io) "DB0", 12 D5 (io) "DB0", 13 D6 (io) "DB0", 14 D7 (io) "DB0"
part B pins: 1 GND (power) "Vss", 2 +Vcc (power) "Vdd", 3 CLCD (power) "V0", 15 BLA (in), 16 BLK (in)
part A text: DPY; LCD; 5•8; 2•16•

## LED1_B
designator HL?, comment Blue
Diod LED SMD Blue; ComponentLink1Description: Datasheet; ComponentLink2Description: Datasheet-local; ComponentLink2URL: *; Color: Blue; ManufacturerPartNumber: ?
footprint DIOMELF2012M (MELF Diode, 2-Leads, Body 2,00x1,20mm, IPC Low Density)
pins: 1, 2
3 alternate drawings of the same symbol

## LED1_G
designator HL?, comment Green  ManufacturerPartNumber: KP-2012SGC
Diod LED SMD Green; ComponentLink1Description: Datasheet; Cost: 2,88; ComponentLink2Description: Datasheet-local; ComponentLink2URL: *; Color: Green
footprint DIOMELF2012M (MELF Diode, 2-Leads, Body 2,00x1,20mm, IPC Low Density)
pins: 1, 2
3 alternate drawings of the same symbol

## LED1_O
designator HL?, comment Orange  ManufacturerPartNumber: KP-2012SEC
Diod LED SMD Orange; ComponentLink1Description: Datasheet; Cost: 4,91; ComponentLink2Description: Datasheet-local; ComponentLink2URL: *; Color: Orange
footprint DIOMELF2012M (MELF Diode, 2-Leads, Body 2,00x1,20mm, IPC Low Density)
pins: 1, 2
3 alternate drawings of the same symbol

## LED1_R
designator HL?, comment Red  ManufacturerPartNumber: KP-2012SURC
Diod LED SMD Red; ComponentLink1Description: Datasheet; Cost: 5,01; ComponentLink2Description: Datasheet-local; ComponentLink2URL: *; Color: Red
footprint DIOMELF2012M (MELF Diode, 2-Leads, Body 2,00x1,20mm, IPC Low Density)
pins: 1, 2
3 alternate drawings of the same symbol

## LED1_Y
designator HL?, comment Yellow  ManufacturerPartNumber: KP-2012SYC
Diod LED SMD Yellow; ComponentLink1Description: Datasheet; Cost: 4,83; ComponentLink2Description: Datasheet-local; ComponentLink2URL: *; Color: Yellow
footprint DIOMELF2012M (MELF Diode, 2-Leads, Body 2,00x1,20mm, IPC Low Density)
pins: 1, 2
3 alternate drawings of the same symbol


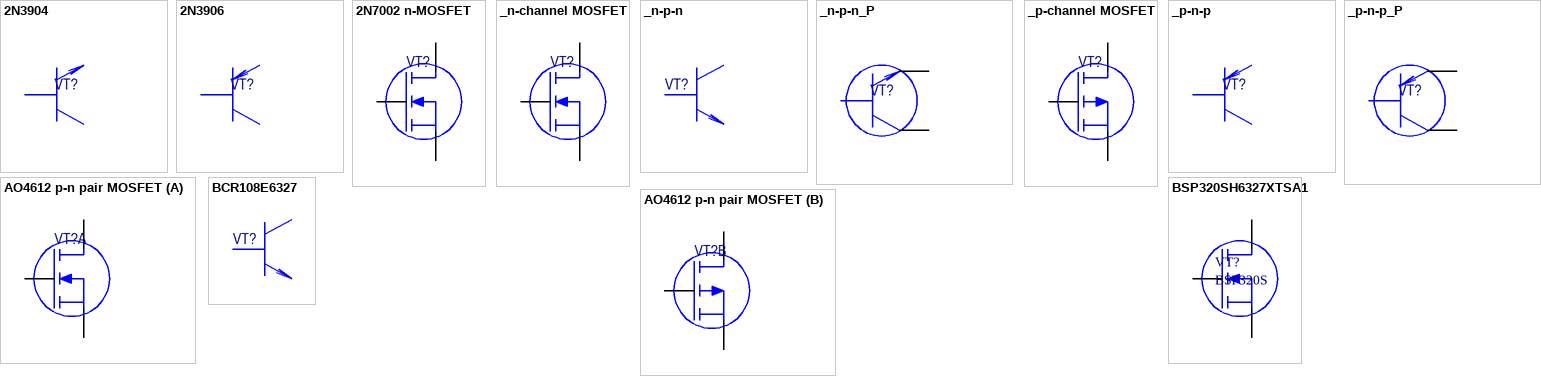
[diagram p6: symbols 2N3904 to BSP320SH6327XTSA1]

## 2N3904
designator VT?
Bipolar transistor n-p-n; Manufacturer: Fairchild; ManufacturerPartNumber: 2N3904; Package: TO-92; ComponentLink2Description: Datasheet-local; ComponentLink2URL: *
footprint TO-92
pins: 1 E "Emitter", 2 B "Вase", 3 C "Сollector"

## 2N3906
designator VT?
Bipolar transistor p-n-p; Manufacturer: Fairchild; ManufacturerPartNumber: 2N3906; Package: TO-92; ComponentLink2Description: Datasheet-local; ComponentLink2URL: *
footprint TO-92
pins: 1 E "Emitter", 2 B "Вase", 3 C "collector"

## 2N7002 n-MOSFET
designator VT?, comment 2N7002  (value not drawn)
60V, 300mA N-channel Trench MOSFET; ManufacturerPartNumber: 2N7002
footprint SOT23 (TO-236AB) (SOT23, 3-Leads, Body 2,90x2,45mm, Pitch 0,95mm, IPC Low Density)
pins: 1 G, 2 S, 3 D

## _n-channel MOSFET
designator VT?  (value not drawn)
ManufacturerPartNumber: *
pins: 1 G, 2 S, 3 D

## _n-p-n
designator VT?, comment ?
Bipolar transistor n-p-n; Manufacturer: ?; ManufacturerPartNumber: ?; ComponentLink2Description: Datasheet-local; ComponentLink2URL: *
pins: 1 B "Вase", 2 E "Emitter", 3 C "Сollector"
3 alternate drawings of the same symbol

## _n-p-n_P
designator VT?, comment ?
Bipolar transistor n-p-n (Package); Manufacturer: ?; ManufacturerPartNumber: ?; ComponentLink2Description: Datasheet-local; ComponentLink2URL: *
pins: 1 B "Вase", 2 E "Emitter", 3 C "Сollector"
3 alternate drawings of the same symbol

## _p-channel MOSFET
designator VT?  (value not drawn)
ManufacturerPartNumber: *
pins: 1 G, 2 S, 3 D

## _p-n-p
designator VT?, comment ?
Bipolar transistor p-n-p; Manufacturer: ?; ManufacturerPartNumber: ?; ComponentLink2Description: Datasheet-local; ComponentLink2URL: *
pins: 1 B "Вase", 2 E "Emitter", 3 C "collector"
3 alternate drawings of the same symbol

## _p-n-p_P
designator VT?, comment ?
Bipolar transistor p-n-p (Package); Manufacturer: ?; ManufacturerPartNumber: ?; ComponentLink2Description: Datasheet-local; ComponentLink2URL: *
pins: 1 B "Вase", 2 E "Emitter", 3 C "collector"
3 alternate drawings of the same symbol

## AO4612 p-n pair MOSFET
designator VT?, comment AO4612  (value not drawn)
60V Complementary Enhancement Mode Field Effect Transistor; ManufacturerPartNumber: AO4612
footprint SOIC-8-Narrow (SOIC, 8-Leads, Body 4,90x3,90mm, Pitch 1,27mm, IPC Low Density)
part A pins: 1 S2, 2 G2, 8 D2
part B pins: 3 S1, 4 G1, 5 D1

## BCR108E6327
designator VT?  (value not drawn)
Digital transistor n-p-n; Manufacturer: Infineon Technologies; ComponentLink1Description: Datasheet; ComponentLink1URL: http://www.infineon.com/dgdl/Infineon-BCR108SERIES-DS-v01_01-en.pdf?fileId=db3a30431428a37301143a27e5a401ce; Cost: 2,98; Package: SOT23; ComponentLink2Description: Datasheet-local; ComponentLink2URL: *; ManufacturerPartNumber: BCR108E6327
footprint SOT95P245X110-3M (SOT23, 3-Leads, Body 2,90x2,45mm, Pitch 0,95mm, IPC Low Density)
pins: 1 B "Вase", 2 E "Emitter", 3 C "Сollector"
3 alternate drawings of the same symbol

## BSP320SH6327XTSA1
designator VT?, comment BSP320S
МОП-транзистор N-Ch 60V 2.9A SOT-223-3; Manufacturer: Infineon Technologies; ManufacturerPartNumber: BSP320SH6327XTSA1; Конфигурация: Single; Упаковка: Reel; Серия: BSP320; Крутизна характеристики прямой передачи - Мин.: 2.5 S; Вид монтажа: SMD/SMT; Полярность транзистора: N-Channel; Канальный режим: Enhancement; Время спада: 35 ns; Производитель: Infineon; Максимальная рабочая температура: + 150 C; Минимальная рабочая температура: - 55 C; Pd - рассеивание мощности: 1.8 W; Qg - заряд затвора: 9.7 nC; Rds Вкл - сопротивление сток-исток: 90 mOhms; Время нарастания: 25 ns; Кол-во в стандартной упаковке: 1000; Типичное время задержки при включении: 11 ns; Vds - напряжение пробоя затвор-исток: 20 V; Vgs th - пороговое напряжение затвор-исток: 3 V; Supplier 1: Mouser; RoHS: RoHS Compliant; Category: МОП-транзистор; Stock 1: 838; Pricing 1: 1=1.15, 10=0.864, 100=0.544, 1000=0.407, 2000=0.346, 10000=0.321, 25000=0.305, 50000=0.292 (EUR); Упаковка / блок: SOT-223-3; Торговая марка: Infineon Technologies; Id - непрерывный ток утечки: 2.9 A; Типичное время задержки выключения: 25 ns; Vds - напряжение пробоя сток-исток: 60 V; RoHS - Mouser: Y; Minimum Order Quantity: 1; Reeling: True; ComponentLink1URL: http://www.mouser.com/ds/2/196/BSP320S_Rev2 5_-359762.pdf; ComponentLink1Description: http://www.mouser.com/ds/2/196/BSP320S_Rev2 5_-359762.pdf; Supplier Part Number 1: 726-BSP320SH6327XTSA
pins: 1 G, 2 D, 3 S


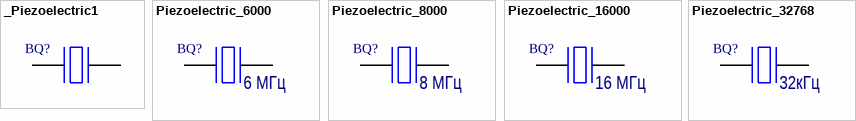
[diagram p7: symbols _Piezoelectric1 to Piezoelectric_32768]

## _Piezoelectric1
designator BQ?, comment ?  (value not drawn)
Piezoelectric elements; ComponentLink1Description: Datasheet; ComponentLink2Description: Datasheet-local; Value: ?; ManufacturerPartNumber: *
pins: 1, 2

## Piezoelectric_6000
designator BQ?, comment 6 МГц
Piezoelectric elements; Manufacturer: Taizhou; ManufacturerPartNumber: 6000 кГц; Notes: 20ppm 20pF; ComponentLink1URL: http://www.promelec.ru/catalog_info/54/126/246/70/; ComponentLink1Description: Datasheet; Package: HC-49/S; Cost: 10; Supplier: Промэлектроника; ComponentLink2Description: Datasheet-local; Value: 6 МГц
footprint HC-49/S
pins: 1, 2

## Piezoelectric_8000
designator BQ?, comment 8 МГц
Piezoelectric elements; Manufacturer: Taizhou; ManufacturerPartNumber: 8000 кГц; Notes: 20ppm 20pF; ComponentLink1URL: http://www.promelec.ru/catalog_info/54/126/246/70/; ComponentLink1Description: Datasheet; Package: HC-49/S; Cost: 10; Supplier: Промэлектроника; ComponentLink2Description: Datasheet-local; Value: 8 МГц
footprint HC-49/S
pins: 1, 2

## Piezoelectric_16000
designator BQ?, comment 16 МГц
Piezoelectric elements; Manufacturer: Taizhou; ManufacturerPartNumber: 16000 кГц 20ppm 20pF; ComponentLink1URL: http://www.promelec.ru/catalog_info/54/126/246/70/; ComponentLink1Description: Datasheet; Package: HC-49/S; Cost: 8,54; Supplier: Промэлектроника; ComponentLink2Description: Datasheet-local; Value: 16 МГц
footprint HC-49/S
pins: 1, 2

## Piezoelectric_32768
designator BQ?, comment 32кГц
Piezoelectric elements; Manufacturer: Taizhou; Notes: 20ppm 12,5pF; ComponentLink1URL: http://www.promelec.ru/catalog_info/54/126/246/70/; ComponentLink1Description: Datasheet; Package: SD26; Cost: 10; Supplier: Промэлектроника; ComponentLink2Description: Datasheet-local; ManufacturerPartNumber: 32 кГц; Value: 32кГц
footprint SD26 (Корпус кварца на 32кГц)
footprint SD26-R (Корпус кварца на 32кГц (лежачий))
pins: 1, 2


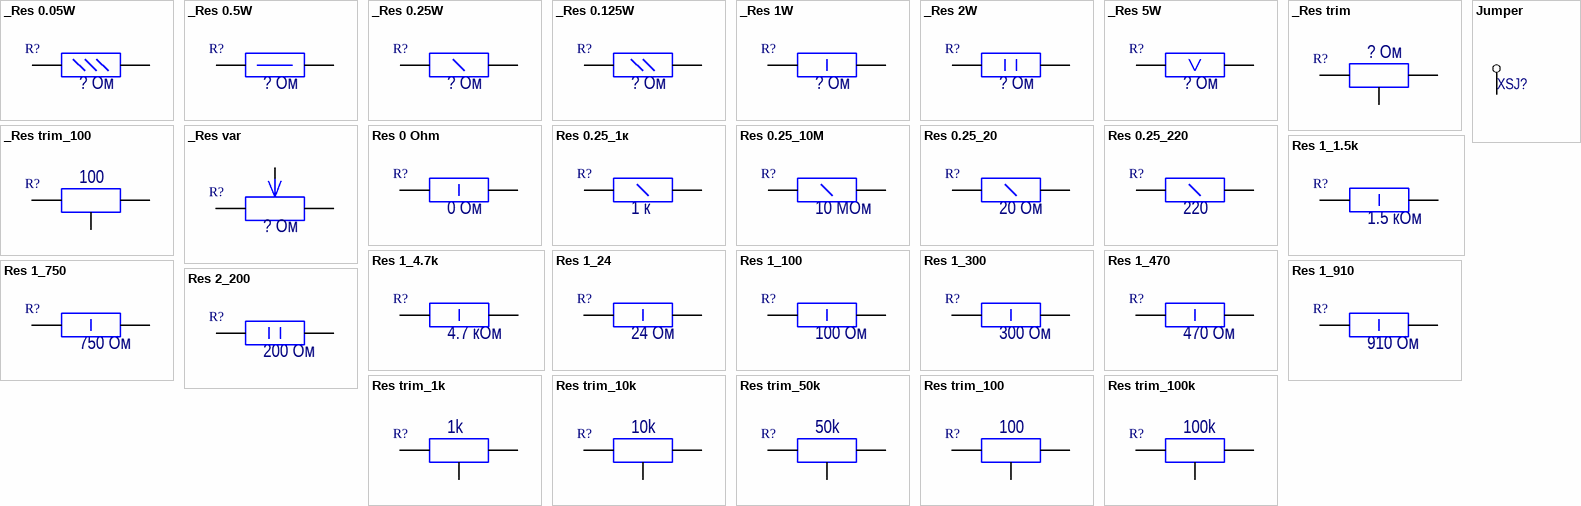
[diagram p8: symbols _Res 0.05W to Res trim_100k]

## _Res 0.05W
designator R?, comment value ? Ом  (hidden comment: ?)
Resistor with 0.05W max power; ManufacturerPartNumber: ?; ComponentLink1Description: Datasheet; Package: 0402; MF-0.05; ComponentLink2Description: Datasheet-local; ComponentLink2URL: *
pins: 1, 2

## _Res 0.5W
designator R?, comment value ? Ом  (hidden comment: ?)
Resistor with 0.5W max power; ManufacturerPartNumber: ?; ComponentLink1Description: Datasheet; Package: 2010; MF-0.5; ComponentLink2Description: Datasheet-local; ComponentLink2URL: *
pins: 1, 2

## _Res 0.25W
designator R?, comment value ? Ом  (hidden comment: ?)
Resistor with 0.25W max power; ManufacturerPartNumber: ?; ComponentLink1Description: Datasheet; Package: 1206; MF-0.25; ComponentLink2Description: Datasheet-local; ComponentLink2URL: *
footprint RESC3216X07M (Chip Resistor, 2-Leads, Body 3,10x1,60mm, IPC Low Density)
pins: 1, 2

## _Res 0.125W
designator R?, comment value ? Ом  (hidden comment: ?)
Resistor with 0.125W max power; ManufacturerPartNumber: ?; ComponentLink1Description: Datasheet; Package: 0805; MF-0.125; ComponentLink2Description: Datasheet-local; ComponentLink2URL: *
footprint RESC3216X07M (Chip Resistor, 2-Leads, Body 3,10x1,60mm, IPC Low Density)
pins: 1, 2

## _Res 1W
designator R?, comment value ? Ом  (hidden comment: ?)
Resistor with 1W max power; ManufacturerPartNumber: ?; ComponentLink1Description: Datasheet; Package: 2512; MF-1; ComponentLink2Description: Datasheet-local; ComponentLink2URL: *
pins: 1, 2

## _Res 2W
designator R?, comment value ? Ом  (hidden comment: ?)
Resistor with 2W max power; ManufacturerPartNumber: ?; ComponentLink1Description: Datasheet; Package: MF-2; ComponentLink2Description: Datasheet-local; ComponentLink2URL: *
pins: 1, 2

## _Res 5W
designator R?, comment value ? Ом  (hidden comment: ?)
Resistor with 5W max power; ManufacturerPartNumber: ?; ComponentLink1Description: Datasheet; ComponentLink2Description: Datasheet-local; ComponentLink2URL: *
pins: 1, 2